# Altium footprint library KEA128.PcbLib: 1 footprints
Each footprint in its own frame and in the unit in brackets; x right, y up, seen from the top. Pads: shape width x height; smd on the part's side, far side on the other; paste and mask are expansions set on the pad; w line width, h text height; cw(c..) or ccw(c..) is an arc to the next point about the centre after c.
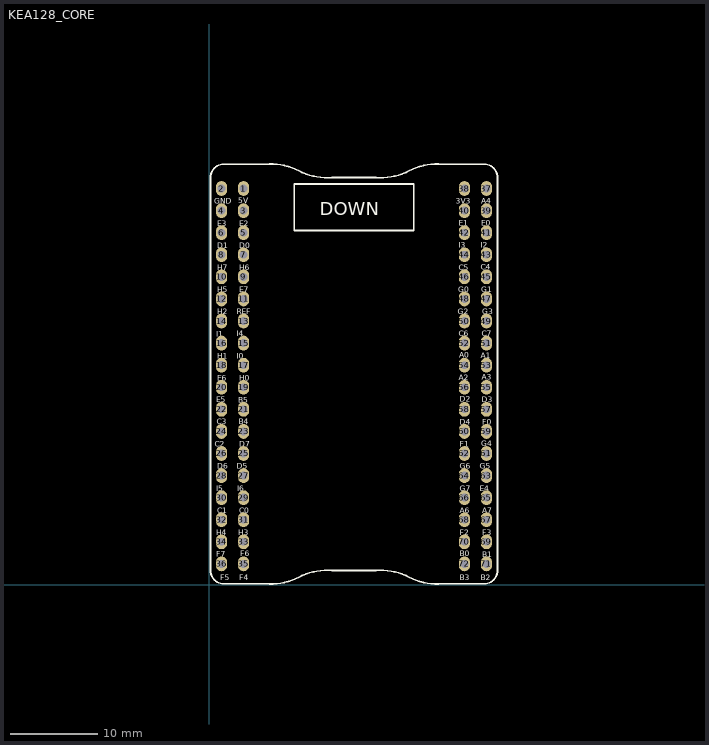
[diagram p0: the footprint, top view; thin cyan lines are the x and y axes]

## KEA128_CORE [mm]
pads (72):
  oval 1.3x1.7 hole 0.9: 1(3.937,45.593) 2(1.397,45.593) 3(3.937,43.053) 4(1.397,43.053) 5(3.937,40.513) 6(1.397,40.513) 7(3.937,37.973) 8(1.397,37.973) 9(3.937,35.433) 10(1.397,35.433) 11(3.937,32.893) 12(1.397,32.893) 13(3.937,30.353) 14(1.397,30.353) 15(3.937,27.813) 16(1.397,27.813) 17(3.937,25.273) 18(1.396,25.277) 19(3.937,22.733) 20(1.397,22.733) 21(3.937,20.193) 22(1.397,20.193) 23(3.937,17.653) 24(1.397,17.653) 25(3.937,15.113) 26(1.397,15.113) 27(3.937,12.573) 28(1.397,12.573) 29(3.937,10.033) 30(1.397,10.033) 31(3.937,7.493) 32(1.397,7.493) 33(3.937,4.953) 34(1.397,4.953) 35(3.937,2.413) 36(1.397,2.413) 37(31.877,45.593) 38(29.337,45.593) 39(31.877,43.053) 40(29.337,43.053) 41(31.877,40.513) 42(29.337,40.513) 43(31.877,37.973) 44(29.337,37.973) 45(31.877,35.433) 46(29.337,35.433) 47(31.877,32.893) 48(29.337,32.893) 49(31.877,30.353) 50(29.337,30.353) 51(31.877,27.813) 52(29.337,27.813) 53(31.877,25.273) 54(29.337,25.273) 55(31.877,22.733) 56(29.337,22.733) 57(31.877,20.193) 58(29.337,20.193) 59(31.877,17.653) 60(29.337,17.653) 61(31.877,15.113) 62(29.337,15.113) 63(31.877,12.573) 64(29.337,12.573) 65(31.877,10.033) 66(29.337,10.033) 67(31.877,7.493) 68(29.337,7.493) 69(31.877,4.953) 70(29.337,4.953) 71(31.877,2.413) 72(29.337,2.413)
Top Overlay:
  lines w0.2: 6.475,0.127 ccw(c7.061,7.112) 10.287,0.889 cw(c13.513,-5.334) 14.099,1.651 ; 6.475,48.387 cw(c7.061,41.402) 10.287,47.625 ccw(c13.513,53.848) 14.099,46.863 ; 6.477,0.127 1.651,0.127 cw(c1.651,1.651) 0.127,1.651 0.127,46.863 cw(c1.651,46.863) 1.651,48.387 6.477,48.387 ; 14.097,1.651 19.177,1.651 ; 14.097,46.863 19.177,46.863 ; 19.175,1.651 cw(c19.761,-5.334) 22.987,0.889 ; 19.175,46.863 ccw(c19.761,53.848) 22.987,47.625 cw(c26.213,41.402) 26.799,48.387 ; 22.988,0.888 ccw(c26.162,6.858) 26.798,0.127 ; 26.797,0.127 31.623,0.127 ccw(c31.623,1.651) 33.147,1.651 33.147,46.863 ccw(c31.623,46.863) 31.623,48.387 26.797,48.387 ; 9.779,40.767 9.779,46.101 23.495,46.101 23.495,40.767 9.779,40.767
  text "B2" at 31.242,0.508 h0.64
  text "F5" at 1.27,0.508 h0.64
  text "F4" at 3.429,0.508 h0.64
  text "B3" at 28.829,0.508 h0.64
  text "5V" at 3.347,43.886 h0.64
  text "E4" at 31.115,10.795 h0.64
  text "G7" at 28.829,10.795 h0.64
  text "A7" at 31.369,8.255 h0.64
  text "A6" at 28.829,8.255 h0.64
  text "F3" at 31.369,5.715 h0.64
  text "F2" at 28.829,5.715 h0.64
  text "B1" at 31.369,3.175 h0.64
  text "B0" at 28.829,3.302 h0.64
  text "F7" at 0.781,3.211 h0.64
  text "F6" at 3.556,3.302 h0.64
  text "H4" at 0.791,5.734 h0.64
  text "H3" at 3.34,5.734 h0.64
  text "C1" at 0.889,8.255 h0.64
  text "C0" at 3.429,8.255 h0.64
  text "I5" at 0.77,10.791 h0.64
  text "I6" at 3.213,10.791 h0.64
  text "D5" at 3.175,13.335 h0.64
  text "D6" at 0.889,13.335 h0.64
  text "H5" at 0.889,33.655 h0.64
  text "H6" at 3.429,36.195 h0.64
  text "REF" at 3.175,31.115 h0.64
  text "H2" at 0.889,31.115 h0.64
  text "I1" at 0.797,28.559 h0.64
  text "I4" at 3.175,28.575 h0.64
  text "I0" at 3.175,26.035 h0.64
  text "H1" at 0.889,26.035 h0.64
  text "E6" at 0.889,23.495 h0.64
  text "H0" at 3.429,23.495 h0.64
  text "B5" at 3.334,20.938 h0.64
  text "E5" at 0.794,20.993 h0.64
  text "B4" at 3.403,18.494 h0.64
  text "C3" at 0.848,18.48 h0.64
  text "D7" at 3.429,15.875 h0.64
  text "C2" at 0.635,15.875 h0.64
  text "C5" at 28.713,36.212 h0.64
  text "C4" at 31.234,36.271 h0.64
  text "A4" at 31.248,43.842 h0.64
  text "E7" at 3.429,33.655 h0.64
  text "GND" at 0.543,43.859 h0.64
  text "I2" at 31.225,38.794 h0.64
  text "I3" at 28.667,38.771 h0.64
  text "E1" at 28.713,41.307 h0.64
  text "E0" at 31.295,41.307 h0.64
  text "E3" at 0.889,41.275 h0.64
  text "E2" at 3.429,41.275 h0.64
  text "D0" at 3.429,38.735 h0.64
  text "D1" at 0.889,38.735 h0.64
  text "3V3" at 28.367,43.865 h0.64
  text "H7" at 0.889,36.195 h0.64
  text "G5" at 31.115,13.335 h0.64
  text "G6" at 28.829,13.335 h0.64
  text "G0" at 28.643,33.676 h0.64
  text "G1" at 31.268,33.643 h0.64
  text "G3" at 31.369,31.115 h0.64
  text "G2" at 28.575,31.115 h0.64
  text "C6" at 28.682,28.594 h0.64
  text "C7" at 31.306,28.622 h0.64
  text "A1" at 31.235,26.055 h0.64
  text "A0" at 28.739,26.098 h0.64
  text "A2" at 28.696,23.531 h0.64
  text "A3" at 31.306,23.616 h0.64
  text "D3" at 31.344,21.034 h0.64
  text "D2" at 28.805,21.068 h0.64
  text "D4" at 28.829,18.415 h0.64
  text "F0" at 31.369,18.415 h0.64
  text "G4" at 31.276,15.939 h0.64
  text "F1" at 28.781,15.914 h0.64
  text "DOWN" at 12.7,42.545 h1.52